# Altium schematic symbol library MINI_360_Module.SchLib: 1 symbol
Pins are listed as number, name and electrical type; pins without a type are passive.

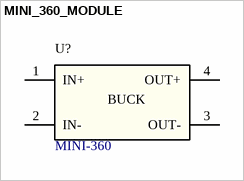
[diagram p0: symbol MINI_360_MODULE]

## MINI_360_MODULE
designator U?, comment MINI-360
MINI-360 adjustable non-isolated buck converter module; Input Voltage: 4.75-23 V (supplier); Output Voltage: 1-17 V adjustable (supplier); Output Current: 1.8 A continuous / 2 A peak (supplier); IC Variant: Unconfirmed: ECA MP1482; supplied archive MP2307; Mechanical Basis: Supplied HW-187 STEP, 18 x 12 mm; verify hardware; Supplier: ECA; Supplier Part Number: 3011015132; Supplier URL: https://eshop.eca.ir/ماژول-تغذیه-ولتاژ-و-شارژ/14379-ماژول-رگولاتور-dc-به-dc-متغیر-کاهنده-2-آمپر-mini-360.html
footprint MINI_360_4P_1640X1040
pins: 1 IN+ (power), 2 IN- (power), 3 OUT- (power), 4 OUT+ (power)
text: BUCK